# Altium integrated library TI Data Converters Digital to Analog Converter.IntLib: 1533 symbols (part 59 of 99)
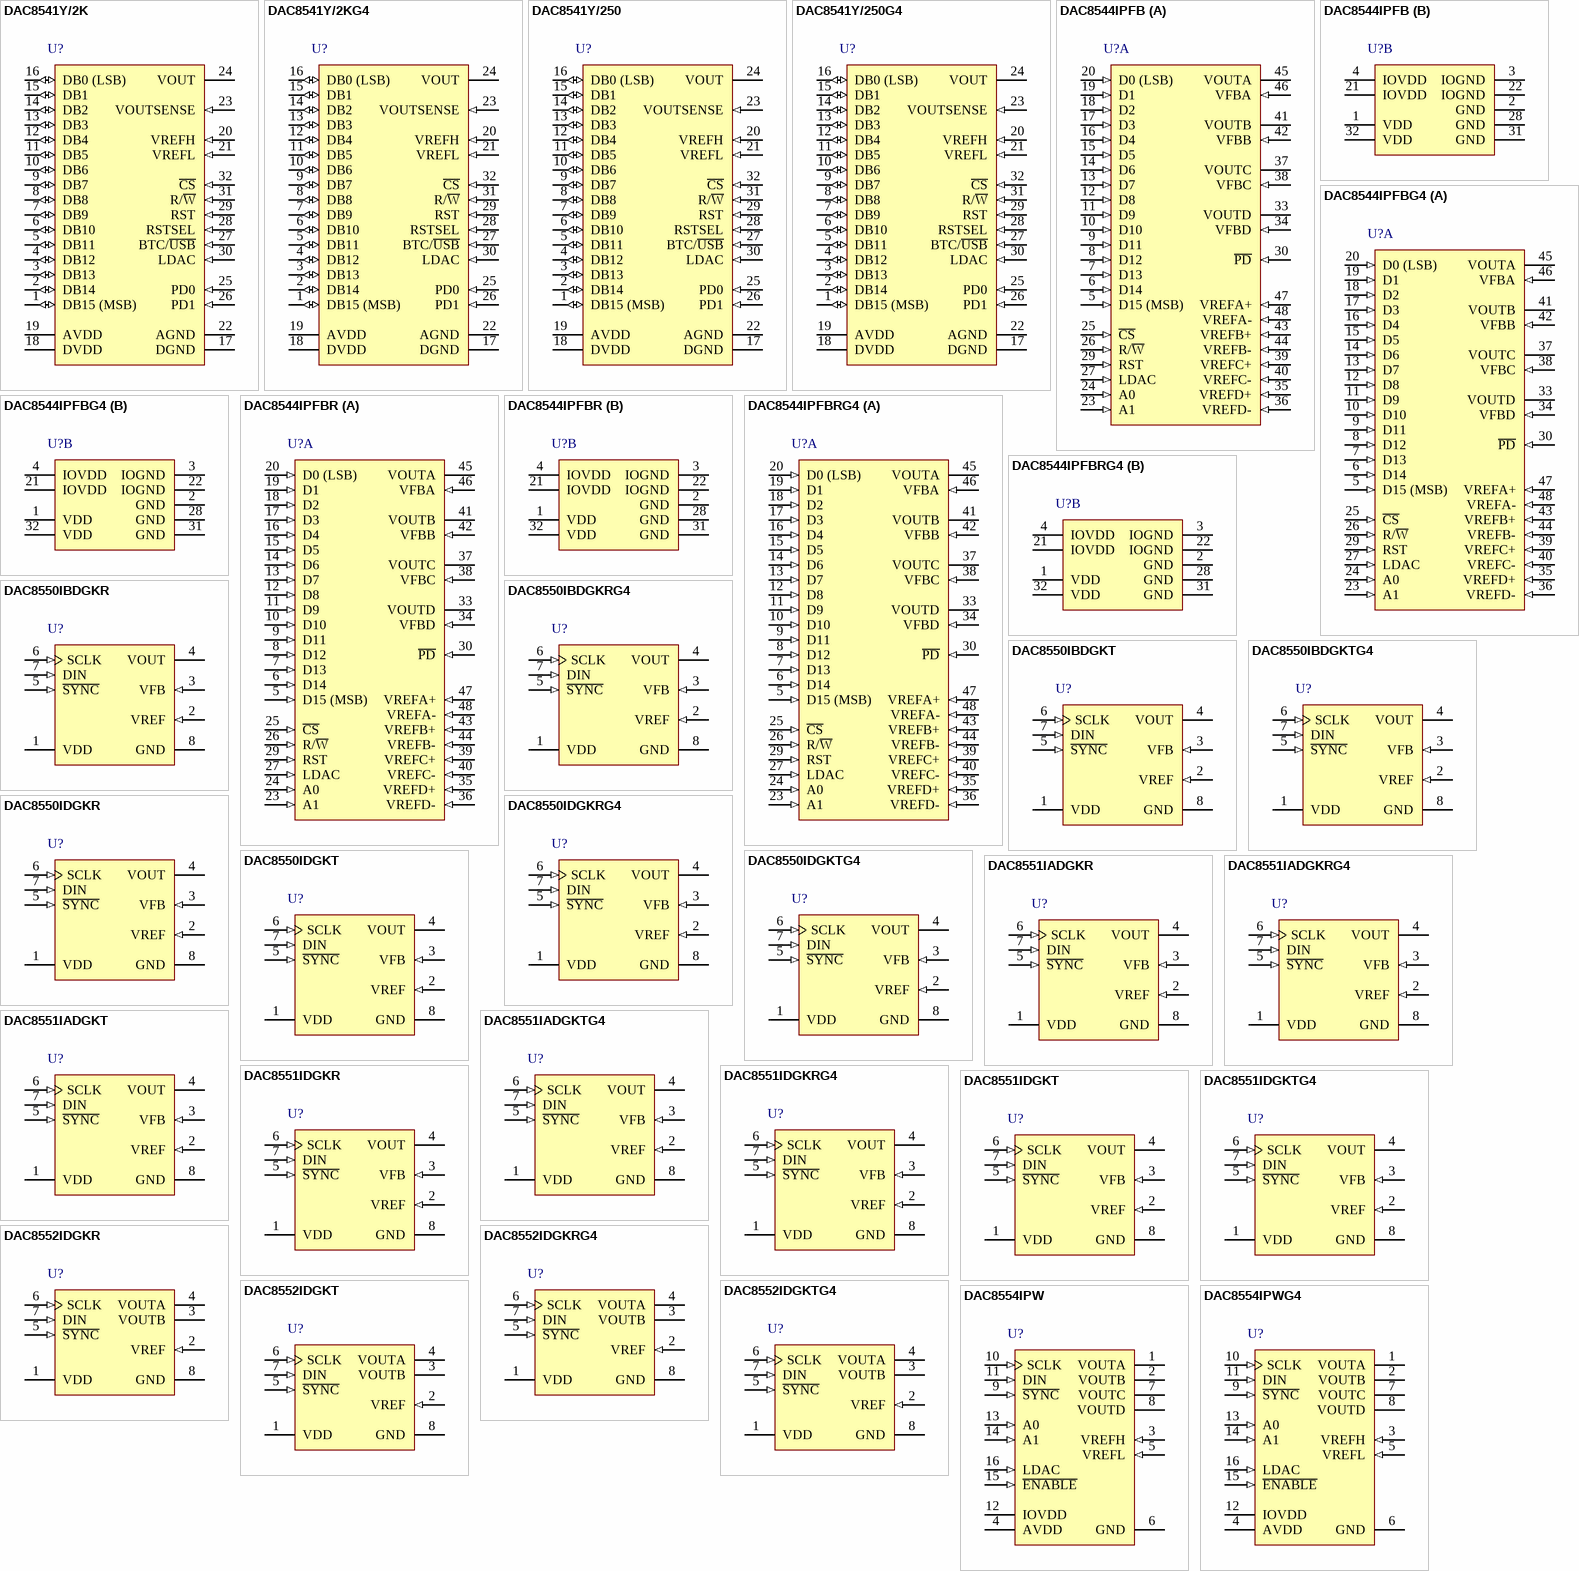
[diagram p131: symbols DAC8541Y/2K to DAC8554IPWG4]

## DAC8544IPFB
designator U?
Quad 16-Bit Rail-to-Rail Voltage Output Parallel Interface DAC, -40 to 105 degC, 48-pin QFP (PFB48), Green (RoHS & no Sb/Br); Manufacturer: Texas Instruments; PartNumber: DAC8544IPFB; DAC Channels: 4; DNL(Max)(+/-LSB): 1; Resolution(Bits): 16; Settling Time(us): 8; SubFamily: Precision DAC (=<10MSPS); DatasheetVersion: SLAS420A; PackageVersion: 4073176/B, 10/1996; PackageReference: PFB48; PackageDescription: 48-Pin Plastic Flat Pack, Body 7 x 7 mm, Pitch 0.5 mm; Supplier 1: Digi-Key; Supplier Part Number 1: 296-17092-ND; Supplier 2: Newark; Supplier Part Number 2: 10J9172; Supplier 3: Mouser; Supplier Part Number 3: 595-DAC8544IPFB; Eco-Plan: Green (RoHS & no Sb/Br); Interface: Parallel; Mounting Technology: Surface Mount; Code_JEDEC: MS-026; ComponentLink1Description: Manufacturer URL; ComponentLink1URL: http://www.ti.com/; ComponentLink2Description: Datasheet; ComponentLink2URL: http://www.ti.com/general/docs/lit/getliterature.tsp?genericPartNumber=DAC8544&fileType=pdf; ComponentLink3Description: Package Specification; ComponentLink3URL: http://www.ti.com/lit/ml/mtqf019a/mtqf019a.pdf
footprint TI-PFB48_N (QFP, 48-Leads, Body 7x7mm, Pitch 0.5mm, IPC Medium Density)
footprint TI-PFB48_L (QFP, 48-Leads, Body 7x7mm, Pitch 0.5mm, IPC High Density)
footprint TI-PFB48_M (QFP, 48-Leads, Body 7x7mm, Pitch 0.5mm, IPC Low Density)
part A pins: 5 D15 (MSB) (in) "Digital input, MSB", 6 D14 (in) "Digital input", 7 D13 (in) "Digital input", 8 D12 (in) "Digital input", 9 D11 (in) "Digital input", 10 D10 (in) "Digital input", 11 D9 (in) "Digital input", 12 D8 (in) "Digital input", 13 D7 (in) "Digital input", 14 D6 (in) "Digital input", 15 D5 (in) "Digital input", 16 D4 (in) "Digital input", 17 D3 (in) "Digital input", 18 D2 (in) "Digital input", 19 D1 (in) "Digital input", 20 D0 (LSB) (in) "Digital input, LSB", 23 A1 (in) "Address pin for selecting between DAC channels", 24 A0 (in) "Address pin for selecting between DAC channels", 25 ~{CS} (in) "Active-low chip select. Used with R/W_ to write/read data to/from device", 26 R/~{W} (in) "Read/Write select used to write data to input register or read data from DAC register", 27 LDAC (in) "Load DACs, rising edge triggered loads all DAC registers", 29 RST (in) "Asynchronously resets contents of all DAC Registers to zero-scale, but does not affect input register", 30 ~{PD} (in) "Active-low power-down pin puts entire device into power-down mode with DAC outputs in 3-state condition", 33 VOUTD (hiz) "Analog output voltage from DAC-D", 34 VFBD (in) "Analog output sense for DAC-D", 35 VREFD+ (in) "High reference voltage input for DAC-D", 36 VREFD- (in) "Low reference voltage input for DAC-D, normally VREFD- = GND", 37 VOUTC (hiz) "Analog output voltage from DAC-C", 38 VFBC (in) "Analog output sense for DAC-C", 39 VREFC+ (in) "High reference voltage input for DAC-C", 40 VREFC- (in) "Low reference voltage input for DAC-C, normally VREFC- = GND", 41 VOUTB (hiz) "Analog output voltage from DAC-B", 42 VFBB (in) "Analog output sense for DAC-B", 43 VREFB+ (in) "High referenBe voltage input for DAC-B", 44 VREFB- (in) "Low referenBe voltage input for DAC-B, normally VREFB- = GND", 45 VOUTA (hiz) "Analog output voltage from DAC-A", 46 VFBA (in) "Analog output sense for DAC-A", 47 VREFA+ (in) "High referenAe voltage input for DAC-A", 48 VREFA- (in) "Low referenAe voltage input for DAC-A, normally VREFA- = GND"
part B pins: 1 VDD (power) "Analog supply voltage, +2.7 V to +5.5 V", 2 GND (power) "Analog supply ground", 3 IOGND (power) "Digital supply ground", 4 IOVDD (power) "Digital supply +1.8 V to +5.5 V", 21 IOVDD (power) "Digital supply +1.8 V to +5.5 V", 22 IOGND (power) "Digital supply ground", 28 GND (power) "Analog ground", 31 GND (power) "Analog supply ground", 32 VDD (power) "Analog supply voltage, +2.7 V to +5.5 V"

## DAC8544IPFBG4
designator U?
Quad 16-Bit Rail-to-Rail Voltage Output Parallel Interface DAC, -40 to 105 degC, 48-pin QFP (PFB48), Green (RoHS & no Sb/Br); Manufacturer: Texas Instruments; PartNumber: DAC8544IPFBG4; DAC Channels: 4; DNL(Max)(+/-LSB): 1; Resolution(Bits): 16; Settling Time(us): 8; SubFamily: Precision DAC (=<10MSPS); DatasheetVersion: SLAS420A; PackageVersion: 4073176/B, 10/1996; PackageReference: PFB48; PackageDescription: 48-Pin Plastic Flat Pack, Body 7 x 7 mm, Pitch 0.5 mm; Supplier 1: Digi-Key; Supplier Part Number 1: DAC8544IPFBG4-ND; Supplier 2: Mouser; Supplier Part Number 2: 595-DAC8544IPFBG4; Eco-Plan: Green (RoHS & no Sb/Br); Interface: Parallel; Mounting Technology: Surface Mount; Code_JEDEC: MS-026; ComponentLink1Description: Manufacturer URL; ComponentLink1URL: http://www.ti.com/; ComponentLink2Description: Datasheet; ComponentLink2URL: http://www.ti.com/general/docs/lit/getliterature.tsp?genericPartNumber=DAC8544&fileType=pdf; ComponentLink3Description: Package Specification; ComponentLink3URL: http://www.ti.com/lit/ml/mtqf019a/mtqf019a.pdf
footprint TI-PFB48_N (QFP, 48-Leads, Body 7x7mm, Pitch 0.5mm, IPC Medium Density)
footprint TI-PFB48_L (QFP, 48-Leads, Body 7x7mm, Pitch 0.5mm, IPC High Density)
footprint TI-PFB48_M (QFP, 48-Leads, Body 7x7mm, Pitch 0.5mm, IPC Low Density)
part A pins: 5 D15 (MSB) (in) "Digital input, MSB", 6 D14 (in) "Digital input", 7 D13 (in) "Digital input", 8 D12 (in) "Digital input", 9 D11 (in) "Digital input", 10 D10 (in) "Digital input", 11 D9 (in) "Digital input", 12 D8 (in) "Digital input", 13 D7 (in) "Digital input", 14 D6 (in) "Digital input", 15 D5 (in) "Digital input", 16 D4 (in) "Digital input", 17 D3 (in) "Digital input", 18 D2 (in) "Digital input", 19 D1 (in) "Digital input", 20 D0 (LSB) (in) "Digital input, LSB", 23 A1 (in) "Address pin for selecting between DAC channels", 24 A0 (in) "Address pin for selecting between DAC channels", 25 ~{CS} (in) "Active-low chip select. Used with R/W_ to write/read data to/from device", 26 R/~{W} (in) "Read/Write select used to write data to input register or read data from DAC register", 27 LDAC (in) "Load DACs, rising edge triggered loads all DAC registers", 29 RST (in) "Asynchronously resets contents of all DAC Registers to zero-scale, but does not affect input register", 30 ~{PD} (in) "Active-low power-down pin puts entire device into power-down mode with DAC outputs in 3-state condition", 33 VOUTD (hiz) "Analog output voltage from DAC-D", 34 VFBD (in) "Analog output sense for DAC-D", 35 VREFD+ (in) "High reference voltage input for DAC-D", 36 VREFD- (in) "Low reference voltage input for DAC-D, normally VREFD- = GND", 37 VOUTC (hiz) "Analog output voltage from DAC-C", 38 VFBC (in) "Analog output sense for DAC-C", 39 VREFC+ (in) "High reference voltage input for DAC-C", 40 VREFC- (in) "Low reference voltage input for DAC-C, normally VREFC- = GND", 41 VOUTB (hiz) "Analog output voltage from DAC-B", 42 VFBB (in) "Analog output sense for DAC-B", 43 VREFB+ (in) "High referenBe voltage input for DAC-B", 44 VREFB- (in) "Low referenBe voltage input for DAC-B, normally VREFB- = GND", 45 VOUTA (hiz) "Analog output voltage from DAC-A", 46 VFBA (in) "Analog output sense for DAC-A", 47 VREFA+ (in) "High referenAe voltage input for DAC-A", 48 VREFA- (in) "Low referenAe voltage input for DAC-A, normally VREFA- = GND"
part B pins: 1 VDD (power) "Analog supply voltage, +2.7 V to +5.5 V", 2 GND (power) "Analog supply ground", 3 IOGND (power) "Digital supply ground", 4 IOVDD (power) "Digital supply +1.8 V to +5.5 V", 21 IOVDD (power) "Digital supply +1.8 V to +5.5 V", 22 IOGND (power) "Digital supply ground", 28 GND (power) "Analog ground", 31 GND (power) "Analog supply ground", 32 VDD (power) "Analog supply voltage, +2.7 V to +5.5 V"

## DAC8544IPFBR
designator U?
Quad 16-Bit Rail-to-Rail Voltage Output Parallel Interface DAC, -40 to 105 degC, 48-pin QFP (PFB48), Green (RoHS & no Sb/Br); Manufacturer: Texas Instruments; PartNumber: DAC8544IPFBR; DAC Channels: 4; DNL(Max)(+/-LSB): 1; Resolution(Bits): 16; Settling Time(us): 8; SubFamily: Precision DAC (=<10MSPS); DatasheetVersion: SLAS420A; PackageVersion: 4073176/B, 10/1996; PackageReference: PFB48; PackageDescription: 48-Pin Plastic Flat Pack, Body 7 x 7 mm, Pitch 0.5 mm; Supplier 1: Digi-Key; Supplier Part Number 1: DAC8544IPFBR-ND; Supplier 2: Mouser; Supplier Part Number 2: 595-DAC8544IPFBR; Eco-Plan: Green (RoHS & no Sb/Br); Interface: Parallel; Mounting Technology: Surface Mount; Code_JEDEC: MS-026; ComponentLink1Description: Manufacturer URL; ComponentLink1URL: http://www.ti.com/; ComponentLink2Description: Datasheet; ComponentLink2URL: http://www.ti.com/general/docs/lit/getliterature.tsp?genericPartNumber=DAC8544&fileType=pdf; ComponentLink3Description: Package Specification; ComponentLink3URL: http://www.ti.com/lit/ml/mtqf019a/mtqf019a.pdf
footprint TI-PFB48_N (QFP, 48-Leads, Body 7x7mm, Pitch 0.5mm, IPC Medium Density)
footprint TI-PFB48_L (QFP, 48-Leads, Body 7x7mm, Pitch 0.5mm, IPC High Density)
footprint TI-PFB48_M (QFP, 48-Leads, Body 7x7mm, Pitch 0.5mm, IPC Low Density)
part A pins: 5 D15 (MSB) (in) "Digital input, MSB", 6 D14 (in) "Digital input", 7 D13 (in) "Digital input", 8 D12 (in) "Digital input", 9 D11 (in) "Digital input", 10 D10 (in) "Digital input", 11 D9 (in) "Digital input", 12 D8 (in) "Digital input", 13 D7 (in) "Digital input", 14 D6 (in) "Digital input", 15 D5 (in) "Digital input", 16 D4 (in) "Digital input", 17 D3 (in) "Digital input", 18 D2 (in) "Digital input", 19 D1 (in) "Digital input", 20 D0 (LSB) (in) "Digital input, LSB", 23 A1 (in) "Address pin for selecting between DAC channels", 24 A0 (in) "Address pin for selecting between DAC channels", 25 ~{CS} (in) "Active-low chip select. Used with R/W_ to write/read data to/from device", 26 R/~{W} (in) "Read/Write select used to write data to input register or read data from DAC register", 27 LDAC (in) "Load DACs, rising edge triggered loads all DAC registers", 29 RST (in) "Asynchronously resets contents of all DAC Registers to zero-scale, but does not affect input register", 30 ~{PD} (in) "Active-low power-down pin puts entire device into power-down mode with DAC outputs in 3-state condition", 33 VOUTD (hiz) "Analog output voltage from DAC-D", 34 VFBD (in) "Analog output sense for DAC-D", 35 VREFD+ (in) "High reference voltage input for DAC-D", 36 VREFD- (in) "Low reference voltage input for DAC-D, normally VREFD- = GND", 37 VOUTC (hiz) "Analog output voltage from DAC-C", 38 VFBC (in) "Analog output sense for DAC-C", 39 VREFC+ (in) "High reference voltage input for DAC-C", 40 VREFC- (in) "Low reference voltage input for DAC-C, normally VREFC- = GND", 41 VOUTB (hiz) "Analog output voltage from DAC-B", 42 VFBB (in) "Analog output sense for DAC-B", 43 VREFB+ (in) "High referenBe voltage input for DAC-B", 44 VREFB- (in) "Low referenBe voltage input for DAC-B, normally VREFB- = GND", 45 VOUTA (hiz) "Analog output voltage from DAC-A", 46 VFBA (in) "Analog output sense for DAC-A", 47 VREFA+ (in) "High referenAe voltage input for DAC-A", 48 VREFA- (in) "Low referenAe voltage input for DAC-A, normally VREFA- = GND"
part B pins: 1 VDD (power) "Analog supply voltage, +2.7 V to +5.5 V", 2 GND (power) "Analog supply ground", 3 IOGND (power) "Digital supply ground", 4 IOVDD (power) "Digital supply +1.8 V to +5.5 V", 21 IOVDD (power) "Digital supply +1.8 V to +5.5 V", 22 IOGND (power) "Digital supply ground", 28 GND (power) "Analog ground", 31 GND (power) "Analog supply ground", 32 VDD (power) "Analog supply voltage, +2.7 V to +5.5 V"

## DAC8544IPFBRG4
designator U?
Quad 16-Bit Rail-to-Rail Voltage Output Parallel Interface DAC, -40 to 105 degC, 48-pin QFP (PFB48), Green (RoHS & no Sb/Br); Manufacturer: Texas Instruments; PartNumber: DAC8544IPFBRG4; DAC Channels: 4; DNL(Max)(+/-LSB): 1; Resolution(Bits): 16; Settling Time(us): 8; SubFamily: Precision DAC (=<10MSPS); DatasheetVersion: SLAS420A; PackageVersion: 4073176/B, 10/1996; PackageReference: PFB48; PackageDescription: 48-Pin Plastic Flat Pack, Body 7 x 7 mm, Pitch 0.5 mm; Supplier 1: Digi-Key; Supplier Part Number 1: DAC8544IPFBRG4-ND; Supplier 2: Mouser; Supplier Part Number 2: 595-DAC8544IPFBRG4; Eco-Plan: Green (RoHS & no Sb/Br); Interface: Parallel; Mounting Technology: Surface Mount; Code_JEDEC: MS-026; ComponentLink1Description: Manufacturer URL; ComponentLink1URL: http://www.ti.com/; ComponentLink2Description: Datasheet; ComponentLink2URL: http://www.ti.com/general/docs/lit/getliterature.tsp?genericPartNumber=DAC8544&fileType=pdf; ComponentLink3Description: Package Specification; ComponentLink3URL: http://www.ti.com/lit/ml/mtqf019a/mtqf019a.pdf
footprint TI-PFB48_N (QFP, 48-Leads, Body 7x7mm, Pitch 0.5mm, IPC Medium Density)
footprint TI-PFB48_L (QFP, 48-Leads, Body 7x7mm, Pitch 0.5mm, IPC High Density)
footprint TI-PFB48_M (QFP, 48-Leads, Body 7x7mm, Pitch 0.5mm, IPC Low Density)
part A pins: 5 D15 (MSB) (in) "Digital input, MSB", 6 D14 (in) "Digital input", 7 D13 (in) "Digital input", 8 D12 (in) "Digital input", 9 D11 (in) "Digital input", 10 D10 (in) "Digital input", 11 D9 (in) "Digital input", 12 D8 (in) "Digital input", 13 D7 (in) "Digital input", 14 D6 (in) "Digital input", 15 D5 (in) "Digital input", 16 D4 (in) "Digital input", 17 D3 (in) "Digital input", 18 D2 (in) "Digital input", 19 D1 (in) "Digital input", 20 D0 (LSB) (in) "Digital input, LSB", 23 A1 (in) "Address pin for selecting between DAC channels", 24 A0 (in) "Address pin for selecting between DAC channels", 25 ~{CS} (in) "Active-low chip select. Used with R/W_ to write/read data to/from device", 26 R/~{W} (in) "Read/Write select used to write data to input register or read data from DAC register", 27 LDAC (in) "Load DACs, rising edge triggered loads all DAC registers", 29 RST (in) "Asynchronously resets contents of all DAC Registers to zero-scale, but does not affect input register", 30 ~{PD} (in) "Active-low power-down pin puts entire device into power-down mode with DAC outputs in 3-state condition", 33 VOUTD (hiz) "Analog output voltage from DAC-D", 34 VFBD (in) "Analog output sense for DAC-D", 35 VREFD+ (in) "High reference voltage input for DAC-D", 36 VREFD- (in) "Low reference voltage input for DAC-D, normally VREFD- = GND", 37 VOUTC (hiz) "Analog output voltage from DAC-C", 38 VFBC (in) "Analog output sense for DAC-C", 39 VREFC+ (in) "High reference voltage input for DAC-C", 40 VREFC- (in) "Low reference voltage input for DAC-C, normally VREFC- = GND", 41 VOUTB (hiz) "Analog output voltage from DAC-B", 42 VFBB (in) "Analog output sense for DAC-B", 43 VREFB+ (in) "High referenBe voltage input for DAC-B", 44 VREFB- (in) "Low referenBe voltage input for DAC-B, normally VREFB- = GND", 45 VOUTA (hiz) "Analog output voltage from DAC-A", 46 VFBA (in) "Analog output sense for DAC-A", 47 VREFA+ (in) "High referenAe voltage input for DAC-A", 48 VREFA- (in) "Low referenAe voltage input for DAC-A, normally VREFA- = GND"
part B pins: 1 VDD (power) "Analog supply voltage, +2.7 V to +5.5 V", 2 GND (power) "Analog supply ground", 3 IOGND (power) "Digital supply ground", 4 IOVDD (power) "Digital supply +1.8 V to +5.5 V", 21 IOVDD (power) "Digital supply +1.8 V to +5.5 V", 22 IOGND (power) "Digital supply ground", 28 GND (power) "Analog ground", 31 GND (power) "Analog supply ground", 32 VDD (power) "Analog supply voltage, +2.7 V to +5.5 V"

## DAC8550IBDGKR
designator U?
16-Bit, Ultralow Glitch Voltage Output DAC, -40 to 105 degC, 8-pin SOP (DGK8), Green (RoHS & no Sb/Br); Manufacturer: Texas Instruments; PartNumber: DAC8550IBDGKR; DAC Channels: 1; INL(Max)(+/-LSB): 8; Interface: Serial SPI; Resolution(Bits): 16; Settling Time(us): 10; SFDR(dB): 87; SNR(dB): 95; SubFamily: Precision DAC (=<10MSPS); DatasheetVersion: SLAS476E; PackageVersion: 4073329/E, 05/2006; PackageReference: DGK8; PackageDescription: 8-Pin Thin Small Outline, Body 3 x 3 mm, Pitch 0.65 mm; Supplier 1: Digi-Key; Supplier Part Number 1: DAC8550IBDGKR-ND; Supplier 2: Newark; Supplier Part Number 2: 84K1256; Supplier 3: Mouser; Supplier Part Number 3: 595-DAC8550IBDGKR; DNL(Max)(+/-LSB): 1; Eco-Plan: Green (RoHS & no Sb/Br); Power Consumption(Typ)(mW): 1; Mounting Technology: Surface Mount; Code_JEDEC: MO-187; ComponentLink1Description: Manufacturer URL; ComponentLink1URL: http://www.ti.com/; ComponentLink2Description: Datasheet; ComponentLink2URL: http://www.ti.com/general/docs/lit/getliterature.tsp?genericPartNumber=DAC8550&fileType=pdf; ComponentLink3Description: Package Specification; ComponentLink3URL: http://www.ti.com/litv/pdf/mpds028d
footprint TI-DGK8_N (SOP, 8-Leads, Body 3x3mm, Pitch 0.65mm, IPC Medium Density)
footprint TI-DGK8_L (SOP, 8-Leads, Body 3x3mm, Pitch 0.65mm, IPC High Density)
footprint TI-DGK8_M (SOP, 8-Leads, Body 3x3mm, Pitch 0.65mm, IPC Low Density)
pins: 1 VDD (power) "Power-Supply Input, +2.7V to +5.5V", 2 VREF (in) "Reference Voltage Input", 3 VFB (in) "Feedback connection for the output amplifier", 4 VOUT (hiz) "Analog output voltage from DAC. The output amplifier has rail-to-rail operation.", 5 ~{SYNC} (in) "Level-triggered control input (active LOW). This is the frame synchronization signal for the input data. When S\Y\N\C\ goes LOW, it enables the input shift register and data is transferred in on the falling edges of the (See Datasheet)", 6 SCLK (in) "Serial Clock Input. Data can be transferred at rates up to 30MHz.", 7 DIN (in) "Serial Data Input. Data is clocked into the 24-bit input shift register on the falling edge of the serial clock input.", 8 GND (power) "Ground reference point for all circuitry on the part."

## DAC8550IBDGKRG4
designator U?
16-Bit, Ultralow Glitch Voltage Output DAC, -40 to 105 degC, 8-pin SOP (DGK8), Green (RoHS & no Sb/Br); Manufacturer: Texas Instruments; PartNumber: DAC8550IBDGKRG4; DAC Channels: 1; INL(Max)(+/-LSB): 8; Interface: Serial SPI; Resolution(Bits): 16; Settling Time(us): 10; SFDR(dB): 87; SNR(dB): 95; SubFamily: Precision DAC (=<10MSPS); DatasheetVersion: SLAS476E; PackageVersion: 4073329/E, 05/2006; PackageReference: DGK8; PackageDescription: 8-Pin Thin Small Outline, Body 3 x 3 mm, Pitch 0.65 mm; Supplier 1: Digi-Key; Supplier Part Number 1: DAC8550IBDGKRG4-ND; Supplier 2: Newark; Supplier Part Number 2: 99K1857; Supplier 3: Mouser; Supplier Part Number 3: 595-DAC8550IBDGKRG4; DNL(Max)(+/-LSB): 1; Eco-Plan: Green (RoHS & no Sb/Br); Power Consumption(Typ)(mW): 1; Mounting Technology: Surface Mount; Code_JEDEC: MO-187; ComponentLink1Description: Manufacturer URL; ComponentLink1URL: http://www.ti.com/; ComponentLink2Description: Datasheet; ComponentLink2URL: http://www.ti.com/general/docs/lit/getliterature.tsp?genericPartNumber=DAC8550&fileType=pdf; ComponentLink3Description: Package Specification; ComponentLink3URL: http://www.ti.com/litv/pdf/mpds028d
footprint TI-DGK8_N (SOP, 8-Leads, Body 3x3mm, Pitch 0.65mm, IPC Medium Density)
footprint TI-DGK8_L (SOP, 8-Leads, Body 3x3mm, Pitch 0.65mm, IPC High Density)
footprint TI-DGK8_M (SOP, 8-Leads, Body 3x3mm, Pitch 0.65mm, IPC Low Density)
pins: 1 VDD (power) "Power-Supply Input, +2.7V to +5.5V", 2 VREF (in) "Reference Voltage Input", 3 VFB (in) "Feedback connection for the output amplifier", 4 VOUT (hiz) "Analog output voltage from DAC. The output amplifier has rail-to-rail operation.", 5 ~{SYNC} (in) "Level-triggered control input (active LOW). This is the frame synchronization signal for the input data. When S\Y\N\C\ goes LOW, it enables the input shift register and data is transferred in on the falling edges of the (See Datasheet)", 6 SCLK (in) "Serial Clock Input. Data can be transferred at rates up to 30MHz.", 7 DIN (in) "Serial Data Input. Data is clocked into the 24-bit input shift register on the falling edge of the serial clock input.", 8 GND (power) "Ground reference point for all circuitry on the part."

## DAC8550IBDGKT
designator U?
16-Bit, Ultralow Glitch Voltage Output DAC, -40 to 105 degC, 8-pin SOP (DGK8), Green (RoHS & no Sb/Br); Manufacturer: Texas Instruments; PartNumber: DAC8550IBDGKT; DAC Channels: 1; INL(Max)(+/-LSB): 8; Interface: Serial SPI; Resolution(Bits): 16; Settling Time(us): 10; SFDR(dB): 87; SNR(dB): 95; SubFamily: Precision DAC (=<10MSPS); DatasheetVersion: SLAS476E; PackageVersion: 4073329/E, 05/2006; PackageReference: DGK8; PackageDescription: 8-Pin Thin Small Outline, Body 3 x 3 mm, Pitch 0.65 mm; Supplier 1: Digi-Key; Supplier Part Number 1: 296-19621-2-ND; Supplier 2: Digi-Key; Supplier Part Number 2: 296-19621-1-ND; Supplier 3: Digi-Key; Supplier Part Number 3: 296-19621-6-ND; Supplier 4: Newark; Supplier Part Number 4: 84K1257; Supplier 5: Mouser; Supplier Part Number 5: 595-DAC8550IBDGKT; DNL(Max)(+/-LSB): 1; Eco-Plan: Green (RoHS & no Sb/Br); Power Consumption(Typ)(mW): 1; Mounting Technology: Surface Mount; Code_JEDEC: MO-187; ComponentLink1Description: Manufacturer URL; ComponentLink1URL: http://www.ti.com/; ComponentLink2Description: Datasheet; ComponentLink2URL: http://www.ti.com/general/docs/lit/getliterature.tsp?genericPartNumber=DAC8550&fileType=pdf; ComponentLink3Description: Package Specification; ComponentLink3URL: http://www.ti.com/litv/pdf/mpds028d
footprint TI-DGK8_N (SOP, 8-Leads, Body 3x3mm, Pitch 0.65mm, IPC Medium Density)
footprint TI-DGK8_L (SOP, 8-Leads, Body 3x3mm, Pitch 0.65mm, IPC High Density)
footprint TI-DGK8_M (SOP, 8-Leads, Body 3x3mm, Pitch 0.65mm, IPC Low Density)
pins: 1 VDD (power) "Power-Supply Input, +2.7V to +5.5V", 2 VREF (in) "Reference Voltage Input", 3 VFB (in) "Feedback connection for the output amplifier", 4 VOUT (hiz) "Analog output voltage from DAC. The output amplifier has rail-to-rail operation.", 5 ~{SYNC} (in) "Level-triggered control input (active LOW). This is the frame synchronization signal for the input data. When S\Y\N\C\ goes LOW, it enables the input shift register and data is transferred in on the falling edges of the (See Datasheet)", 6 SCLK (in) "Serial Clock Input. Data can be transferred at rates up to 30MHz.", 7 DIN (in) "Serial Data Input. Data is clocked into the 24-bit input shift register on the falling edge of the serial clock input.", 8 GND (power) "Ground reference point for all circuitry on the part."

## DAC8550IBDGKTG4
designator U?
16-Bit, Ultralow Glitch Voltage Output DAC, -40 to 105 degC, 8-pin SOP (DGK8), Green (RoHS & no Sb/Br); Manufacturer: Texas Instruments; PartNumber: DAC8550IBDGKTG4; DAC Channels: 1; INL(Max)(+/-LSB): 8; Interface: Serial SPI; Resolution(Bits): 16; Settling Time(us): 10; SFDR(dB): 87; SNR(dB): 95; SubFamily: Precision DAC (=<10MSPS); DatasheetVersion: SLAS476E; PackageVersion: 4073329/E, 05/2006; PackageReference: DGK8; PackageDescription: 8-Pin Thin Small Outline, Body 3 x 3 mm, Pitch 0.65 mm; Supplier 1: Digi-Key; Supplier Part Number 1: DAC8550IBDGKTG4-ND; Supplier 2: Newark; Supplier Part Number 2: 99K1858; Supplier 3: Mouser; Supplier Part Number 3: 595-DAC8550IBDGKTG4; DNL(Max)(+/-LSB): 1; Eco-Plan: Green (RoHS & no Sb/Br); Power Consumption(Typ)(mW): 1; Mounting Technology: Surface Mount; Code_JEDEC: MO-187; ComponentLink1Description: Manufacturer URL; ComponentLink1URL: http://www.ti.com/; ComponentLink2Description: Datasheet; ComponentLink2URL: http://www.ti.com/general/docs/lit/getliterature.tsp?genericPartNumber=DAC8550&fileType=pdf; ComponentLink3Description: Package Specification; ComponentLink3URL: http://www.ti.com/litv/pdf/mpds028d
footprint TI-DGK8_N (SOP, 8-Leads, Body 3x3mm, Pitch 0.65mm, IPC Medium Density)
footprint TI-DGK8_L (SOP, 8-Leads, Body 3x3mm, Pitch 0.65mm, IPC High Density)
footprint TI-DGK8_M (SOP, 8-Leads, Body 3x3mm, Pitch 0.65mm, IPC Low Density)
pins: 1 VDD (power) "Power-Supply Input, +2.7V to +5.5V", 2 VREF (in) "Reference Voltage Input", 3 VFB (in) "Feedback connection for the output amplifier", 4 VOUT (hiz) "Analog output voltage from DAC. The output amplifier has rail-to-rail operation.", 5 ~{SYNC} (in) "Level-triggered control input (active LOW). This is the frame synchronization signal for the input data. When S\Y\N\C\ goes LOW, it enables the input shift register and data is transferred in on the falling edges of the (See Datasheet)", 6 SCLK (in) "Serial Clock Input. Data can be transferred at rates up to 30MHz.", 7 DIN (in) "Serial Data Input. Data is clocked into the 24-bit input shift register on the falling edge of the serial clock input.", 8 GND (power) "Ground reference point for all circuitry on the part."

## DAC8550IDGKR
designator U?
16-Bit, Ultralow Glitch Voltage Output DAC, -40 to 105 degC, 8-pin SOP (DGK8), Green (RoHS & no Sb/Br); Manufacturer: Texas Instruments; PartNumber: DAC8550IDGKR; DAC Channels: 1; INL(Max)(+/-LSB): 12; Interface: Serial SPI; Resolution(Bits): 16; Settling Time(us): 10; SFDR(dB): 87; SNR(dB): 95; SubFamily: Precision DAC (=<10MSPS); DatasheetVersion: SLAS476E; PackageVersion: 4073329/E, 05/2006; PackageReference: DGK8; PackageDescription: 8-Pin Thin Small Outline, Body 3 x 3 mm, Pitch 0.65 mm; Supplier 1: Digi-Key; Supplier Part Number 1: DAC8550IDGKR-ND; Supplier 2: Mouser; Supplier Part Number 2: 595-DAC8550IDGKR; DNL(Max)(+/-LSB): 1; Eco-Plan: Green (RoHS & no Sb/Br); Power Consumption(Typ)(mW): 1; Mounting Technology: Surface Mount; Code_JEDEC: MO-187; ComponentLink1Description: Manufacturer URL; ComponentLink1URL: http://www.ti.com/; ComponentLink2Description: Datasheet; ComponentLink2URL: http://www.ti.com/general/docs/lit/getliterature.tsp?genericPartNumber=DAC8550&fileType=pdf; ComponentLink3Description: Package Specification; ComponentLink3URL: http://www.ti.com/litv/pdf/mpds028d
footprint TI-DGK8_N (SOP, 8-Leads, Body 3x3mm, Pitch 0.65mm, IPC Medium Density)
footprint TI-DGK8_L (SOP, 8-Leads, Body 3x3mm, Pitch 0.65mm, IPC High Density)
footprint TI-DGK8_M (SOP, 8-Leads, Body 3x3mm, Pitch 0.65mm, IPC Low Density)
pins: 1 VDD (power) "Power-Supply Input, +2.7V to +5.5V", 2 VREF (in) "Reference Voltage Input", 3 VFB (in) "Feedback connection for the output amplifier", 4 VOUT (hiz) "Analog output voltage from DAC. The output amplifier has rail-to-rail operation.", 5 ~{SYNC} (in) "Level-triggered control input (active LOW). This is the frame synchronization signal for the input data. When S\Y\N\C\ goes LOW, it enables the input shift register and data is transferred in on the falling edges of the (See Datasheet)", 6 SCLK (in) "Serial Clock Input. Data can be transferred at rates up to 30MHz.", 7 DIN (in) "Serial Data Input. Data is clocked into the 24-bit input shift register on the falling edge of the serial clock input.", 8 GND (power) "Ground reference point for all circuitry on the part."

## DAC8550IDGKRG4
designator U?
16-Bit, Ultralow Glitch Voltage Output DAC, -40 to 105 degC, 8-pin SOP (DGK8), Green (RoHS & no Sb/Br); Manufacturer: Texas Instruments; PartNumber: DAC8550IDGKRG4; DAC Channels: 1; INL(Max)(+/-LSB): 12; Interface: Serial SPI; Resolution(Bits): 16; Settling Time(us): 10; SFDR(dB): 87; SNR(dB): 95; SubFamily: Precision DAC (=<10MSPS); DatasheetVersion: SLAS476E; PackageVersion: 4073329/E, 05/2006; PackageReference: DGK8; PackageDescription: 8-Pin Thin Small Outline, Body 3 x 3 mm, Pitch 0.65 mm; Supplier 1: Digi-Key; Supplier Part Number 1: DAC8550IDGKRG4-ND; Supplier 2: Mouser; Supplier Part Number 2: 595-DAC8550IDGKRG4; DNL(Max)(+/-LSB): 1; Eco-Plan: Green (RoHS & no Sb/Br); Power Consumption(Typ)(mW): 1; Mounting Technology: Surface Mount; Code_JEDEC: MO-187; ComponentLink1Description: Manufacturer URL; ComponentLink1URL: http://www.ti.com/; ComponentLink2Description: Datasheet; ComponentLink2URL: http://www.ti.com/general/docs/lit/getliterature.tsp?genericPartNumber=DAC8550&fileType=pdf; ComponentLink3Description: Package Specification; ComponentLink3URL: http://www.ti.com/litv/pdf/mpds028d
footprint TI-DGK8_N (SOP, 8-Leads, Body 3x3mm, Pitch 0.65mm, IPC Medium Density)
footprint TI-DGK8_L (SOP, 8-Leads, Body 3x3mm, Pitch 0.65mm, IPC High Density)
footprint TI-DGK8_M (SOP, 8-Leads, Body 3x3mm, Pitch 0.65mm, IPC Low Density)
pins: 1 VDD (power) "Power-Supply Input, +2.7V to +5.5V", 2 VREF (in) "Reference Voltage Input", 3 VFB (in) "Feedback connection for the output amplifier", 4 VOUT (hiz) "Analog output voltage from DAC. The output amplifier has rail-to-rail operation.", 5 ~{SYNC} (in) "Level-triggered control input (active LOW). This is the frame synchronization signal for the input data. When S\Y\N\C\ goes LOW, it enables the input shift register and data is transferred in on the falling edges of the (See Datasheet)", 6 SCLK (in) "Serial Clock Input. Data can be transferred at rates up to 30MHz.", 7 DIN (in) "Serial Data Input. Data is clocked into the 24-bit input shift register on the falling edge of the serial clock input.", 8 GND (power) "Ground reference point for all circuitry on the part."

## DAC8550IDGKT
designator U?
16-Bit, Ultralow Glitch Voltage Output DAC, -40 to 105 degC, 8-pin SOP (DGK8), Green (RoHS & no Sb/Br); Manufacturer: Texas Instruments; PartNumber: DAC8550IDGKT; DAC Channels: 1; INL(Max)(+/-LSB): 12; Interface: Serial SPI; Resolution(Bits): 16; Settling Time(us): 10; SFDR(dB): 87; SNR(dB): 95; SubFamily: Precision DAC (=<10MSPS); DatasheetVersion: SLAS476E; PackageVersion: 4073329/E, 05/2006; PackageReference: DGK8; PackageDescription: 8-Pin Thin Small Outline, Body 3 x 3 mm, Pitch 0.65 mm; Supplier 1: Digi-Key; Supplier Part Number 1: 296-19622-2-ND; Supplier 2: Digi-Key; Supplier Part Number 2: 296-19622-1-ND; Supplier 3: Digi-Key; Supplier Part Number 3: 296-19622-6-ND; Supplier 4: Newark; Supplier Part Number 4: 84K1259; Supplier 5: Mouser; Supplier Part Number 5: 595-DAC8550IDGKT; DNL(Max)(+/-LSB): 1; Eco-Plan: Green (RoHS & no Sb/Br); Power Consumption(Typ)(mW): 1; Mounting Technology: Surface Mount; Code_JEDEC: MO-187; ComponentLink1Description: Manufacturer URL; ComponentLink1URL: http://www.ti.com/; ComponentLink2Description: Datasheet; ComponentLink2URL: http://www.ti.com/general/docs/lit/getliterature.tsp?genericPartNumber=DAC8550&fileType=pdf; ComponentLink3Description: Package Specification; ComponentLink3URL: http://www.ti.com/litv/pdf/mpds028d
footprint TI-DGK8_N (SOP, 8-Leads, Body 3x3mm, Pitch 0.65mm, IPC Medium Density)
footprint TI-DGK8_L (SOP, 8-Leads, Body 3x3mm, Pitch 0.65mm, IPC High Density)
footprint TI-DGK8_M (SOP, 8-Leads, Body 3x3mm, Pitch 0.65mm, IPC Low Density)
pins: 1 VDD (power) "Power-Supply Input, +2.7V to +5.5V", 2 VREF (in) "Reference Voltage Input", 3 VFB (in) "Feedback connection for the output amplifier", 4 VOUT (hiz) "Analog output voltage from DAC. The output amplifier has rail-to-rail operation.", 5 ~{SYNC} (in) "Level-triggered control input (active LOW). This is the frame synchronization signal for the input data. When S\Y\N\C\ goes LOW, it enables the input shift register and data is transferred in on the falling edges of the (See Datasheet)", 6 SCLK (in) "Serial Clock Input. Data can be transferred at rates up to 30MHz.", 7 DIN (in) "Serial Data Input. Data is clocked into the 24-bit input shift register on the falling edge of the serial clock input.", 8 GND (power) "Ground reference point for all circuitry on the part."

## DAC8550IDGKTG4
designator U?
16-Bit, Ultralow Glitch Voltage Output DAC, -40 to 105 degC, 8-pin SOP (DGK8), Green (RoHS & no Sb/Br); Manufacturer: Texas Instruments; PartNumber: DAC8550IDGKTG4; DAC Channels: 1; INL(Max)(+/-LSB): 12; Interface: Serial SPI; Resolution(Bits): 16; Settling Time(us): 10; SFDR(dB): 87; SNR(dB): 95; SubFamily: Precision DAC (=<10MSPS); DatasheetVersion: SLAS476E; PackageVersion: 4073329/E, 05/2006; PackageReference: DGK8; PackageDescription: 8-Pin Thin Small Outline, Body 3 x 3 mm, Pitch 0.65 mm; Supplier 1: Digi-Key; Supplier Part Number 1: DAC8550IDGKTG4-ND; Supplier 2: Mouser; Supplier Part Number 2: 595-DAC8550IDGKTG4; DNL(Max)(+/-LSB): 1; Eco-Plan: Green (RoHS & no Sb/Br); Power Consumption(Typ)(mW): 1; Mounting Technology: Surface Mount; Code_JEDEC: MO-187; ComponentLink1Description: Manufacturer URL; ComponentLink1URL: http://www.ti.com/; ComponentLink2Description: Datasheet; ComponentLink2URL: http://www.ti.com/general/docs/lit/getliterature.tsp?genericPartNumber=DAC8550&fileType=pdf; ComponentLink3Description: Package Specification; ComponentLink3URL: http://www.ti.com/litv/pdf/mpds028d
footprint TI-DGK8_N (SOP, 8-Leads, Body 3x3mm, Pitch 0.65mm, IPC Medium Density)
footprint TI-DGK8_L (SOP, 8-Leads, Body 3x3mm, Pitch 0.65mm, IPC High Density)
footprint TI-DGK8_M (SOP, 8-Leads, Body 3x3mm, Pitch 0.65mm, IPC Low Density)
pins: 1 VDD (power) "Power-Supply Input, +2.7V to +5.5V", 2 VREF (in) "Reference Voltage Input", 3 VFB (in) "Feedback connection for the output amplifier", 4 VOUT (hiz) "Analog output voltage from DAC. The output amplifier has rail-to-rail operation.", 5 ~{SYNC} (in) "Level-triggered control input (active LOW). This is the frame synchronization signal for the input data. When S\Y\N\C\ goes LOW, it enables the input shift register and data is transferred in on the falling edges of the (See Datasheet)", 6 SCLK (in) "Serial Clock Input. Data can be transferred at rates up to 30MHz.", 7 DIN (in) "Serial Data Input. Data is clocked into the 24-bit input shift register on the falling edge of the serial clock input.", 8 GND (power) "Ground reference point for all circuitry on the part."

## DAC8551IADGKR
designator U?
16-Bit, Ultralow Glitch, Voltage Output, Digital to Analog Converter, -40 to 105 degC, 8-pin SOP (DGK8), Green (RoHS & no Sb/Br); Manufacturer: Texas Instruments; PartNumber: DAC8551IADGKR; DAC Channels: 1; INL(Max)(+/-LSB): 12; Interface: Serial SPI; Resolution(Bits): 16; Settling Time(us): 10; SFDR(dB): 87; SNR(dB): 95; SubFamily: Precision DAC (=<10MSPS); DatasheetVersion: SLAS429B; PackageVersion: 4073329/E, 05/2006; PackageReference: DGK8; PackageDescription: 8-Pin Thin Small Outline, Body 3 x 3 mm, Pitch 0.65 mm; Supplier 1: Digi-Key; Supplier Part Number 1: DAC8551IADGKR-ND; Supplier 2: Newark; Supplier Part Number 2: 20M5088; Supplier 3: Mouser; Supplier Part Number 3: 595-DAC8551IADGKR; DNL(Max)(+/-LSB): 1; Eco-Plan: Green (RoHS & no Sb/Br); Power Consumption(Typ)(mW): 1; Mounting Technology: Surface Mount; Code_JEDEC: MO-187; ComponentLink1Description: Manufacturer URL; ComponentLink1URL: http://www.ti.com/; ComponentLink2Description: Datasheet; ComponentLink2URL: http://www.ti.com/general/docs/lit/getliterature.tsp?genericPartNumber=DAC8551&fileType=pdf; ComponentLink3Description: Package Specification; ComponentLink3URL: http://www.ti.com/litv/pdf/mpds028d
footprint TI-DGK8_N (SOP, 8-Leads, Body 3x3mm, Pitch 0.65mm, IPC Medium Density)
footprint TI-DGK8_L (SOP, 8-Leads, Body 3x3mm, Pitch 0.65mm, IPC High Density)
footprint TI-DGK8_M (SOP, 8-Leads, Body 3x3mm, Pitch 0.65mm, IPC Low Density)
pins: 1 VDD (power) "Power-Supply Input, +2.7V to +5.5V", 2 VREF (in) "Reference Voltage Input", 3 VFB (in) "Feedback connection for the output amplifier", 4 VOUT (hiz) "Analog output voltage from DAC. The output amplifier has rail-to-rail operation.", 5 ~{SYNC} (in) "Level-triggered control input (active LOW). This is the frame synchronization signal for the input data. When S\Y\N\C\ goes LOW, it enables the input shift register and data is transferred in on the falling edges of the (See Datasheet)", 6 SCLK (in) "Serial Clock Input. Data can be transferred at rates up to 30MHz.", 7 DIN (in) "Serial Data Input. Data is clocked into the 24-bit input shift register on the falling edge of the serial clock input.", 8 GND (power) "Ground reference point for all circuitry on the part."

## DAC8551IADGKRG4
designator U?
16-Bit, Ultralow Glitch, Voltage Output, Digital to Analog Converter, -40 to 105 degC, 8-pin SOP (DGK8), Green (RoHS & no Sb/Br); Manufacturer: Texas Instruments; PartNumber: DAC8551IADGKRG4; DAC Channels: 1; INL(Max)(+/-LSB): 12; Interface: Serial SPI; Resolution(Bits): 16; Settling Time(us): 10; SFDR(dB): 87; SNR(dB): 95; SubFamily: Precision DAC (=<10MSPS); DatasheetVersion: SLAS429B; PackageVersion: 4073329/E, 05/2006; PackageReference: DGK8; PackageDescription: 8-Pin Thin Small Outline, Body 3 x 3 mm, Pitch 0.65 mm; Supplier 1: Digi-Key; Supplier Part Number 1: DAC8551IADGKRG4-ND; Supplier 2: Mouser; Supplier Part Number 2: 595-DAC8551IADGKRG4; DNL(Max)(+/-LSB): 1; Eco-Plan: Green (RoHS & no Sb/Br); Power Consumption(Typ)(mW): 1; Mounting Technology: Surface Mount; Code_JEDEC: MO-187; ComponentLink1Description: Manufacturer URL; ComponentLink1URL: http://www.ti.com/; ComponentLink2Description: Datasheet; ComponentLink2URL: http://www.ti.com/general/docs/lit/getliterature.tsp?genericPartNumber=DAC8551&fileType=pdf; ComponentLink3Description: Package Specification; ComponentLink3URL: http://www.ti.com/litv/pdf/mpds028d
footprint TI-DGK8_N (SOP, 8-Leads, Body 3x3mm, Pitch 0.65mm, IPC Medium Density)
footprint TI-DGK8_L (SOP, 8-Leads, Body 3x3mm, Pitch 0.65mm, IPC High Density)
footprint TI-DGK8_M (SOP, 8-Leads, Body 3x3mm, Pitch 0.65mm, IPC Low Density)
pins: 1 VDD (power) "Power-Supply Input, +2.7V to +5.5V", 2 VREF (in) "Reference Voltage Input", 3 VFB (in) "Feedback connection for the output amplifier", 4 VOUT (hiz) "Analog output voltage from DAC. The output amplifier has rail-to-rail operation.", 5 ~{SYNC} (in) "Level-triggered control input (active LOW). This is the frame synchronization signal for the input data. When S\Y\N\C\ goes LOW, it enables the input shift register and data is transferred in on the falling edges of the (See Datasheet)", 6 SCLK (in) "Serial Clock Input. Data can be transferred at rates up to 30MHz.", 7 DIN (in) "Serial Data Input. Data is clocked into the 24-bit input shift register on the falling edge of the serial clock input.", 8 GND (power) "Ground reference point for all circuitry on the part."

## DAC8551IADGKT
designator U?
16-Bit, Ultralow Glitch, Voltage Output, Digital to Analog Converter, -40 to 105 degC, 8-pin SOP (DGK8), Green (RoHS & no Sb/Br); Manufacturer: Texas Instruments; PartNumber: DAC8551IADGKT; DAC Channels: 1; INL(Max)(+/-LSB): 12; Interface: Serial SPI; Resolution(Bits): 16; Settling Time(us): 10; SFDR(dB): 87; SNR(dB): 95; SubFamily: Precision DAC (=<10MSPS); DatasheetVersion: SLAS429B; PackageVersion: 4073329/E, 05/2006; PackageReference: DGK8; PackageDescription: 8-Pin Thin Small Outline, Body 3 x 3 mm, Pitch 0.65 mm; Supplier 1: Digi-Key; Supplier Part Number 1: 296-21222-2-ND; Supplier 2: Digi-Key; Supplier Part Number 2: 296-21222-1-ND; Supplier 3: Digi-Key; Supplier Part Number 3: 296-21222-6-ND; Supplier 4: Farnell; Supplier Part Number 4: 1407756; Supplier 5: Newark; Supplier Part Number 5: 86W5979; Supplier 6: Newark; Supplier Part Number 6: 20M5089; Supplier 7: Mouser; Supplier Part Number 7: 595-DAC8551IADGKT; DNL(Max)(+/-LSB): 1; Eco-Plan: Green (RoHS & no Sb/Br); Power Consumption(Typ)(mW): 1; Mounting Technology: Surface Mount; Code_JEDEC: MO-187; ComponentLink1Description: Manufacturer URL; ComponentLink1URL: http://www.ti.com/; ComponentLink2Description: Datasheet; ComponentLink2URL: http://www.ti.com/general/docs/lit/getliterature.tsp?genericPartNumber=DAC8551&fileType=pdf; ComponentLink3Description: Package Specification; ComponentLink3URL: http://www.ti.com/litv/pdf/mpds028d
footprint TI-DGK8_N (SOP, 8-Leads, Body 3x3mm, Pitch 0.65mm, IPC Medium Density)
footprint TI-DGK8_L (SOP, 8-Leads, Body 3x3mm, Pitch 0.65mm, IPC High Density)
footprint TI-DGK8_M (SOP, 8-Leads, Body 3x3mm, Pitch 0.65mm, IPC Low Density)
pins: 1 VDD (power) "Power-Supply Input, +2.7V to +5.5V", 2 VREF (in) "Reference Voltage Input", 3 VFB (in) "Feedback connection for the output amplifier", 4 VOUT (hiz) "Analog output voltage from DAC. The output amplifier has rail-to-rail operation.", 5 ~{SYNC} (in) "Level-triggered control input (active LOW). This is the frame synchronization signal for the input data. When S\Y\N\C\ goes LOW, it enables the input shift register and data is transferred in on the falling edges of the (See Datasheet)", 6 SCLK (in) "Serial Clock Input. Data can be transferred at rates up to 30MHz.", 7 DIN (in) "Serial Data Input. Data is clocked into the 24-bit input shift register on the falling edge of the serial clock input.", 8 GND (power) "Ground reference point for all circuitry on the part."

## DAC8551IADGKTG4
designator U?
16-Bit, Ultralow Glitch, Voltage Output, Digital to Analog Converter, -40 to 105 degC, 8-pin SOP (DGK8), Green (RoHS & no Sb/Br); Manufacturer: Texas Instruments; PartNumber: DAC8551IADGKTG4; DAC Channels: 1; INL(Max)(+/-LSB): 12; Interface: Serial SPI; Resolution(Bits): 16; Settling Time(us): 10; SFDR(dB): 87; SNR(dB): 95; SubFamily: Precision DAC (=<10MSPS); DatasheetVersion: SLAS429B; PackageVersion: 4073329/E, 05/2006; PackageReference: DGK8; PackageDescription: 8-Pin Thin Small Outline, Body 3 x 3 mm, Pitch 0.65 mm; Supplier 1: Digi-Key; Supplier Part Number 1: DAC8551IADGKTG4-ND; Supplier 2: Farnell; Supplier Part Number 2: 1390682; Supplier 3: Newark; Supplier Part Number 3: 61M5758; Supplier 4: Newark; Supplier Part Number 4: 20M5090; Supplier 5: Mouser; Supplier Part Number 5: 595-DAC8551IADGKTG4; DNL(Max)(+/-LSB): 1; Eco-Plan: Green (RoHS & no Sb/Br); Power Consumption(Typ)(mW): 1; Mounting Technology: Surface Mount; Code_JEDEC: MO-187; ComponentLink1Description: Manufacturer URL; ComponentLink1URL: http://www.ti.com/; ComponentLink2Description: Datasheet; ComponentLink2URL: http://www.ti.com/general/docs/lit/getliterature.tsp?genericPartNumber=DAC8551&fileType=pdf; ComponentLink3Description: Package Specification; ComponentLink3URL: http://www.ti.com/litv/pdf/mpds028d
footprint TI-DGK8_N (SOP, 8-Leads, Body 3x3mm, Pitch 0.65mm, IPC Medium Density)
footprint TI-DGK8_L (SOP, 8-Leads, Body 3x3mm, Pitch 0.65mm, IPC High Density)
footprint TI-DGK8_M (SOP, 8-Leads, Body 3x3mm, Pitch 0.65mm, IPC Low Density)
pins: 1 VDD (power) "Power-Supply Input, +2.7V to +5.5V", 2 VREF (in) "Reference Voltage Input", 3 VFB (in) "Feedback connection for the output amplifier", 4 VOUT (hiz) "Analog output voltage from DAC. The output amplifier has rail-to-rail operation.", 5 ~{SYNC} (in) "Level-triggered control input (active LOW). This is the frame synchronization signal for the input data. When S\Y\N\C\ goes LOW, it enables the input shift register and data is transferred in on the falling edges of the (See Datasheet)", 6 SCLK (in) "Serial Clock Input. Data can be transferred at rates up to 30MHz.", 7 DIN (in) "Serial Data Input. Data is clocked into the 24-bit input shift register on the falling edge of the serial clock input.", 8 GND (power) "Ground reference point for all circuitry on the part."

## DAC8551IDGKR
designator U?
16-Bit, Ultralow Glitch, Voltage Output, Digital to Analog Converter, -40 to 105 degC, 8-pin SOP (DGK8), Green (RoHS & no Sb/Br); Manufacturer: Texas Instruments; PartNumber: DAC8551IDGKR; DAC Channels: 1; INL(Max)(+/-LSB): 8; Interface: Serial SPI; Resolution(Bits): 16; Settling Time(us): 10; SFDR(dB): 87; SNR(dB): 95; SubFamily: Precision DAC (=<10MSPS); DatasheetVersion: SLAS429B; PackageVersion: 4073329/E, 05/2006; PackageReference: DGK8; PackageDescription: 8-Pin Thin Small Outline, Body 3 x 3 mm, Pitch 0.65 mm; Supplier 1: Digi-Key; Supplier Part Number 1: DAC8551IDGKR-ND; Supplier 2: Newark; Supplier Part Number 2: 52K5716; Supplier 3: Mouser; Supplier Part Number 3: 595-DAC8551IDGKR; DNL(Max)(+/-LSB): 1; Eco-Plan: Green (RoHS & no Sb/Br); Power Consumption(Typ)(mW): 1; Mounting Technology: Surface Mount; Code_JEDEC: MO-187; ComponentLink1Description: Manufacturer URL; ComponentLink1URL: http://www.ti.com/; ComponentLink2Description: Datasheet; ComponentLink2URL: http://www.ti.com/general/docs/lit/getliterature.tsp?genericPartNumber=DAC8551&fileType=pdf; ComponentLink3Description: Package Specification; ComponentLink3URL: http://www.ti.com/litv/pdf/mpds028d
footprint TI-DGK8_N (SOP, 8-Leads, Body 3x3mm, Pitch 0.65mm, IPC Medium Density)
footprint TI-DGK8_L (SOP, 8-Leads, Body 3x3mm, Pitch 0.65mm, IPC High Density)
footprint TI-DGK8_M (SOP, 8-Leads, Body 3x3mm, Pitch 0.65mm, IPC Low Density)
pins: 1 VDD (power) "Power-Supply Input, +2.7V to +5.5V", 2 VREF (in) "Reference Voltage Input", 3 VFB (in) "Feedback connection for the output amplifier", 4 VOUT (hiz) "Analog output voltage from DAC. The output amplifier has rail-to-rail operation.", 5 ~{SYNC} (in) "Level-triggered control input (active LOW). This is the frame synchronization signal for the input data. When S\Y\N\C\ goes LOW, it enables the input shift register and data is transferred in on the falling edges of the (See Datasheet)", 6 SCLK (in) "Serial Clock Input. Data can be transferred at rates up to 30MHz.", 7 DIN (in) "Serial Data Input. Data is clocked into the 24-bit input shift register on the falling edge of the serial clock input.", 8 GND (power) "Ground reference point for all circuitry on the part."

## DAC8551IDGKRG4
designator U?
16-Bit, Ultralow Glitch, Voltage Output, Digital to Analog Converter, -40 to 105 degC, 8-pin SOP (DGK8), Green (RoHS & no Sb/Br); Manufacturer: Texas Instruments; PartNumber: DAC8551IDGKRG4; DAC Channels: 1; INL(Max)(+/-LSB): 8; Interface: Serial SPI; Resolution(Bits): 16; Settling Time(us): 10; SFDR(dB): 87; SNR(dB): 95; SubFamily: Precision DAC (=<10MSPS); DatasheetVersion: SLAS429B; PackageVersion: 4073329/E, 05/2006; PackageReference: DGK8; PackageDescription: 8-Pin Thin Small Outline, Body 3 x 3 mm, Pitch 0.65 mm; Supplier 1: Digi-Key; Supplier Part Number 1: DAC8551IDGKRG4-ND; Supplier 2: Newark; Supplier Part Number 2: 60K9175; Supplier 3: Mouser; Supplier Part Number 3: 595-DAC8551IDGKRG4; DNL(Max)(+/-LSB): 1; Eco-Plan: Green (RoHS & no Sb/Br); Power Consumption(Typ)(mW): 1; Mounting Technology: Surface Mount; Code_JEDEC: MO-187; ComponentLink1Description: Manufacturer URL; ComponentLink1URL: http://www.ti.com/; ComponentLink2Description: Datasheet; ComponentLink2URL: http://www.ti.com/general/docs/lit/getliterature.tsp?genericPartNumber=DAC8551&fileType=pdf; ComponentLink3Description: Package Specification; ComponentLink3URL: http://www.ti.com/litv/pdf/mpds028d
footprint TI-DGK8_N (SOP, 8-Leads, Body 3x3mm, Pitch 0.65mm, IPC Medium Density)
footprint TI-DGK8_L (SOP, 8-Leads, Body 3x3mm, Pitch 0.65mm, IPC High Density)
footprint TI-DGK8_M (SOP, 8-Leads, Body 3x3mm, Pitch 0.65mm, IPC Low Density)
pins: 1 VDD (power) "Power-Supply Input, +2.7V to +5.5V", 2 VREF (in) "Reference Voltage Input", 3 VFB (in) "Feedback connection for the output amplifier", 4 VOUT (hiz) "Analog output voltage from DAC. The output amplifier has rail-to-rail operation.", 5 ~{SYNC} (in) "Level-triggered control input (active LOW). This is the frame synchronization signal for the input data. When S\Y\N\C\ goes LOW, it enables the input shift register and data is transferred in on the falling edges of the (See Datasheet)", 6 SCLK (in) "Serial Clock Input. Data can be transferred at rates up to 30MHz.", 7 DIN (in) "Serial Data Input. Data is clocked into the 24-bit input shift register on the falling edge of the serial clock input.", 8 GND (power) "Ground reference point for all circuitry on the part."

## DAC8551IDGKT
designator U?
16-Bit, Ultralow Glitch, Voltage Output, Digital to Analog Converter, -40 to 105 degC, 8-pin SOP (DGK8), Green (RoHS & no Sb/Br); Manufacturer: Texas Instruments; PartNumber: DAC8551IDGKT; DAC Channels: 1; INL(Max)(+/-LSB): 8; Interface: Serial SPI; Resolution(Bits): 16; Settling Time(us): 10; SFDR(dB): 87; SNR(dB): 95; SubFamily: Precision DAC (=<10MSPS); DatasheetVersion: SLAS429B; PackageVersion: 4073329/E, 05/2006; PackageReference: DGK8; PackageDescription: 8-Pin Thin Small Outline, Body 3 x 3 mm, Pitch 0.65 mm; Supplier 1: Digi-Key; Supplier Part Number 1: 296-18290-2-ND; Supplier 2: Digi-Key; Supplier Part Number 2: 296-18290-1-ND; Supplier 3: Digi-Key; Supplier Part Number 3: 296-18290-6-ND; Supplier 4: Farnell; Supplier Part Number 4: 2144299; Supplier 5: Newark; Supplier Part Number 5: 46W1544; Supplier 6: Newark; Supplier Part Number 6: 52K5717; Supplier 7: Mouser; Supplier Part Number 7: 595-DAC8551IDGKT; DNL(Max)(+/-LSB): 1; Eco-Plan: Green (RoHS & no Sb/Br); Power Consumption(Typ)(mW): 1; Mounting Technology: Surface Mount; Code_JEDEC: MO-187; ComponentLink1Description: Manufacturer URL; ComponentLink1URL: http://www.ti.com/; ComponentLink2Description: Datasheet; ComponentLink2URL: http://www.ti.com/general/docs/lit/getliterature.tsp?genericPartNumber=DAC8551&fileType=pdf; ComponentLink3Description: Package Specification; ComponentLink3URL: http://www.ti.com/litv/pdf/mpds028d
footprint TI-DGK8_N (SOP, 8-Leads, Body 3x3mm, Pitch 0.65mm, IPC Medium Density)
footprint TI-DGK8_L (SOP, 8-Leads, Body 3x3mm, Pitch 0.65mm, IPC High Density)
footprint TI-DGK8_M (SOP, 8-Leads, Body 3x3mm, Pitch 0.65mm, IPC Low Density)
pins: 1 VDD (power) "Power-Supply Input, +2.7V to +5.5V", 2 VREF (in) "Reference Voltage Input", 3 VFB (in) "Feedback connection for the output amplifier", 4 VOUT (hiz) "Analog output voltage from DAC. The output amplifier has rail-to-rail operation.", 5 ~{SYNC} (in) "Level-triggered control input (active LOW). This is the frame synchronization signal for the input data. When S\Y\N\C\ goes LOW, it enables the input shift register and data is transferred in on the falling edges of the (See Datasheet)", 6 SCLK (in) "Serial Clock Input. Data can be transferred at rates up to 30MHz.", 7 DIN (in) "Serial Data Input. Data is clocked into the 24-bit input shift register on the falling edge of the serial clock input.", 8 GND (power) "Ground reference point for all circuitry on the part."